# Altium schematic symbol library Amplifier_Buffer.SchLib: 11 symbols
Pins are listed as number, name and electrical type; pins without a type are passive.

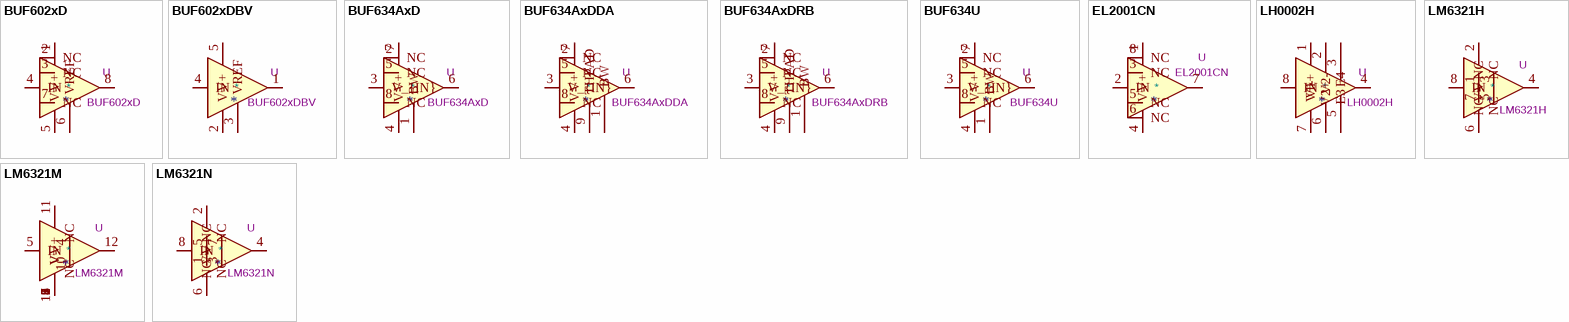
[diagram p0: symbols BUF602xD to LM6321N]

## BUF602xD
designator *  value BUF602xD  Reference: U
High-Speed, 1000 MHz, Closed-Loop Buffer, SOIC-8; ki_keywords: buffer amplifier; ki_fp_filters: SOIC*3.9x4.9mm*P1.27mm*; Footprint: Package_SO:SOIC-8_3.9x4.9mm_P1.27mm; Datasheet: http://www.ti.com/lit/ds/symlink/buf602.pdf; Description_: High-Speed, 1000 MHz, Closed-Loop Buffer, SOIC-8
pins: 1 V+, 2 NC, 3 NC, 4 IN, 5 V-, 6 VREF, 7 NC, 8

## BUF602xDBV
designator *  value BUF602xDBV  Reference: U
High-Speed, 1000 MHz, Closed-Loop Buffer, SOT23-5; ki_keywords: buffer amplifier; ki_fp_filters: SOT?23*; Footprint: Package_TO_SOT_SMD:SOT-23-5; Datasheet: http://www.ti.com/lit/ds/symlink/buf602.pdf; Description_: High-Speed, 1000 MHz, Closed-Loop Buffer, SOT23-5
pins: 1, 2 V-, 3 VREF, 4 IN, 5 V+

## BUF634AxD
designator *  value BUF634AxD  Reference: U
36-V, 210-MHz, 250-mA Output, High-Speed Buffer, SOIC-8; ki_keywords: buffer amplifier; ki_fp_filters: SOIC*3.9x4.9mm*P1.27mm*; Footprint: Package_SO:SOIC-8_3.9x4.9mm_P1.27mm; Datasheet: https://www.ti.com/lit/ds/symlink/buf634a.pdf; Description_: 36-V, 210-MHz, 250-mA Output, High-Speed Buffer, SOIC-8
pins: 1 BW, 2 NC, 3 V_{IN}, 4 V-, 5 NC, 6, 7 V+, 8 NC

## BUF634AxDDA
designator *  value BUF634AxDDA  Reference: U
250mA High-Speed Buffer, PowerPAD SOIC-8; ki_keywords: buffer amplifier; ki_fp_filters: TI*SO*PowerPAD*; Footprint: Package_SO:TI_SO-PowerPAD-8_ThermalVias; Datasheet: https://www.ti.com/lit/ds/symlink/buf634.pdf; Description_: 250mA High-Speed Buffer, PowerPAD SOIC-8
pins: 1 BW, 2 NC, 3 V_{IN}, 4 V-, 5 NC, 6, 7 V+, 8 NC, 9 THPAD

## BUF634AxDRB
designator *  value BUF634AxDRB  Reference: U
250mA High-Speed Buffer, VSON-8; ki_keywords: buffer amplifier; ki_fp_filters: Texas*S*PVSON*; Footprint: Package_SON:Texas_S-PVSON-N8_ThermalVias; Datasheet: https://www.ti.com/lit/ds/symlink/buf634a.pdf; Description_: 250mA High-Speed Buffer, VSON-8
pins: 1 BW, 2 NC, 3 V_{IN}, 4 V-, 5 NC, 6, 7 V+, 8 NC, 9 THPAD

## BUF634U
designator *  value BUF634U  Reference: U
250mA High-Speed Buffer, SOIC-8; ki_keywords: buffer amplifier; ki_fp_filters: SOIC*3.9x4.9mm*P1.27mm*; Footprint: Package_SO:SOIC-8_3.9x4.9mm_P1.27mm; Datasheet: https://www.ti.com/lit/ds/symlink/buf634.pdf; Description_: 250mA High-Speed Buffer, SOIC-8
pins: 1 BW, 2 NC, 3 V_{IN}, 4 V-, 5 NC, 6, 7 V+, 8 NC

## EL2001CN
designator *  value EL2001CN  Reference: U
Monolithic high slew rate, buffer amplifier, DIP-8; ki_fp_filters: DIP*W7.62mm*; Footprint: Package_DIP:DIP-8_W7.62mm; Datasheet: http://www.datasheetlib.com/datasheet/677973/el2001_intersil.html#datasheet; Description_: Monolithic high slew rate, buffer amplifier, DIP-8; ki_keywords: Monolithic high slew rate, buffer amplifier
pins: 1 V+, 2 IN, 3 NC, 4 V-, 5 NC, 6 NC, 7, 8 NC

## LH0002H
designator *  value LH0002H  Reference: U
Wide-Band, High Current, Unity Gain Buffer Amplifier, TO-5-8; ki_fp_filters: TO?5*; Footprint: Package_TO_SOT_THT:TO-5-8; Datasheet: http://www.calogic.net/pdf/LH0002_Datasheet_Rev_A.pdf; Description_: Wide-Band, High Current, Unity Gain Buffer Amplifier, TO-5-8; ki_keywords: Buffer
pins: 1 V1+, 2 V2+, 3 E3, 4, 5 E4, 6 V2-, 7 V1-, 8 IN

## LM6321H
designator *  value LM6321H  Reference: U
High Speed Buffer, TO-5-8; ki_keywords: single buffer; ki_fp_filters: TO?5*; Footprint: Package_TO_SOT_THT:TO-5-8; Datasheet: http://www.electronica60norte.com/mwfls/pdf/LM6221.pdf; Description_: High Speed Buffer, TO-5-8
pins: 1 NC, 2 V+, 3 NC, 4, 5 NC, 6 V-, 7 NC, 8 IN

## LM6321M
designator *  value LM6321M  Reference: U
High Speed Buffer, SOIC-14; ki_keywords: single buffer; ki_fp_filters: SOIC*3.9x8.7mm*P1.27mm*; Footprint: Package_SO:SOIC-14_3.9x8.7mm_P1.27mm; Datasheet: http://www.electronica60norte.com/mwfls/pdf/LM6221.pdf; Description_: High Speed Buffer, SOIC-14
pins: 1 V-, 2 V-, 3 V-, 4 NC, 5 IN, 6 V-, 7 V-, 8 V-, 9 V-, 10 NC, 11 V+, 12, 13 V-, 14 V-

## LM6321N
designator *  value LM6321N  Reference: U
High Speed Buffer, DIP-8; ki_keywords: single buffer; ki_fp_filters: DIP*W7.62mm*; Footprint: Package_DIP:DIP-8_W7.62mm; Datasheet: http://www.electronica60norte.com/mwfls/pdf/LM6221.pdf; Description_: High Speed Buffer, DIP-8
pins: 1 NC, 2 V+, 3 NC, 4, 5 NC, 6 V-, 7 NC, 8 IN